# Altium schematic symbol library Schlib_KLS.SchLib: 2 symbols
Pins are listed as number, name and electrical type; pins without a type are passive.

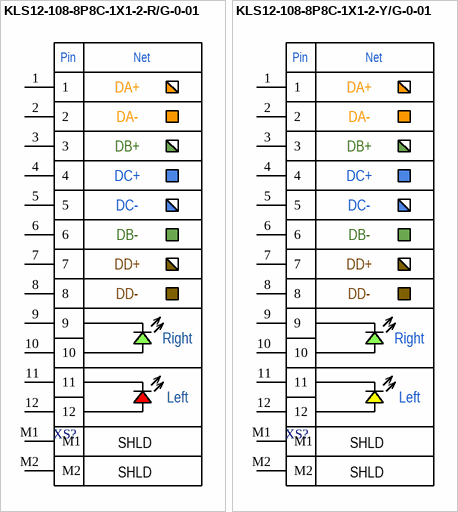
[diagram p0: symbols KLS12-108-8P8C-1X1-2-R/G-0-01 to KLS12-108-8P8C-1X1-2-Y/G-0-01]

## KLS12-108-8P8C-1X1-2-R/G-0-01
designator XS?  (value not drawn)
RJ-45; Manufacturer: KLS; Part Number: KLS12-108-8P8C-1X1-2-R/G-0-01; Author: Sklyarov
footprint L-KLS12-108-8P8C (Ethernet RJ-45 Socket)
footprint L-KLS12-108-8P8C_SLOTS (Ethernet RJ-45 Socket)
pins: 1, 2, 3, 4, 5, 6, 7, 8, 9, 10, 11, 12, M1, M2
text: Pin; Net; DA+; DA-; DB+; DC+; DC-; DB-; DD+; DD-; Right; Left; SHLD

## KLS12-108-8P8C-1X1-2-Y/G-0-01
designator XS?  (value not drawn)
RJ-45; Manufacturer: KLS; Part Number: KLS12-108-8P8C-1X1-2-Y/G-0-01; Author: Sklyarov
footprint L-KLS12-108-8P8C (Ethernet RJ-45 Socket)
footprint L-KLS12-108-8P8C_SLOTS (Ethernet RJ-45 Socket)
pins: 1, 2, 3, 4, 5, 6, 7, 8, 9, 10, 11, 12, M1, M2
text: Pin; Net; DA+; DA-; DB+; DC+; DC-; DB-; DD+; DD-; Right; Left; SHLD